# EAGLE library part INEX-PCD8544 (library synfinatic)
INEX PCD8544 LCD Basically a Nokia 5110 LCD with 8 pins. Available at Robotshop.com Note that this PCB has two sets of contacts, top has pins, the bottom has through-hole pads. If you want to use the pads on the bottom, use the alternate package
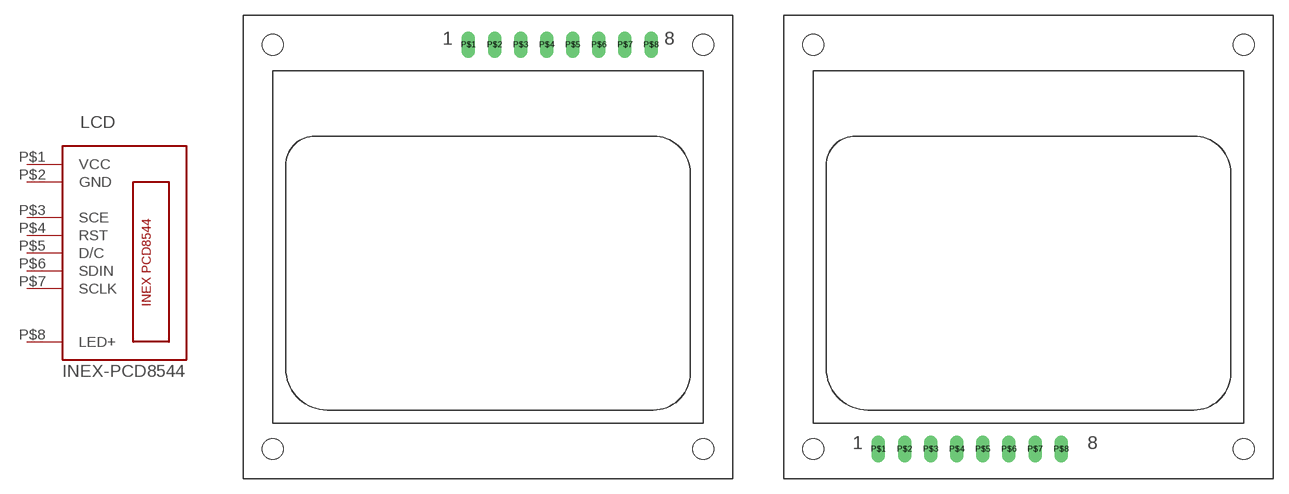
[diagram p0: symbol with the pads of INEX-PCD8544-TOP; footprints INEX-PCD8544-TOP, INEX-PCD8544-BOTTOM]

Designator prefix LCD

## INEX-PCD8544TPINS  [INEX-PCD8544-TOP]
P$1  VCC  pwr
P$2  GND  pwr
P$3  SCE  in
P$4  RST  in
P$5  D/C  in
P$6  SDIN  in
P$7  SCLK  in
P$8  LED+  pwr

## INEX-PCD8544BPINS  [INEX-PCD8544-BOTTOM]
Pads as for INEX-PCD8544-TOP

## INEX-PCD8544PINSONLY  [NOKIA-5100-PINS]
Pads as for INEX-PCD8544-TOP

## INEX-PCD8544TOP-CONNECTED  [INEX-PCD8544-TOP-BOTTOM]
P$9  VCC  pwr
P$10  GND  pwr
P$11  SCE  in
P$12  RST  in
P$13  D/C  in
P$14  SDIN  in
P$15  SCLK  in
P$16  LED+  pwr

## INEX-PCD8544BOTTOM-CONNECTED  [INEX-PCD8544-TOP-BOTTOM]
Pads as for INEX-PCD8544-TOP

## INEX-PCD8544EBAY-BOTTOM-CONN  [NOKIA-5110-EBAY]
P$1  RST  in
P$2  SCE  in
P$3  D/C  in
P$4  SDIN  in
P$5  SCLK  in
P$6  VCC  pwr
P$7  LED+  pwr
P$8  GND  pwr

## INEX-PCD8544EBAY-TOP-CONN  [NOKIA-5110-EBAY]
P$9  RST  in
P$10  SCE  in
P$11  D/C  in
P$12  SDIN  in
P$13  SCLK  in
P$14  VCC  pwr
P$15  LED+  pwr
P$16  GND  pwr

## INEX-PCD8544NOKIA-5110-EBAY-NOHOLES-BOTTOM  [NOKIA-5110-EBAY-NOHOLES]
Pads as for NOKIA-5110-EBAY

## INEX-PCD8544NOKIA-5110-EBAY-NOHOLES-TOP  [NOKIA-5110-EBAY-NOHOLES]
Pads as for NOKIA-5110-EBAY

## Footprint INEX-PCD8544-TOP (pad centres in mm)
drill 0.8 long: P$1 -3.81,41.91; P$2 -1.27,41.91; P$3 1.27,41.91; P$4 3.81,41.91; P$5 6.35,41.91; P$6 8.89,41.91; P$7 11.43,41.91; P$8 13.97,41.91
hole 2 at -22.86,41.91
hole 2 at -22.86,2.54
hole 2 at 19.05,2.54
hole 2 at 19.05,41.91

## Footprint INEX-PCD8544-BOTTOM (pad centres in mm)
drill 0.8 long: P$1 -16.51,-16.51; P$2 -13.97,-16.51; P$3 -11.43,-16.51; P$4 -8.89,-16.51; P$5 -6.35,-16.51; P$6 -3.81,-16.51; P$7 -1.27,-16.51; P$8 1.27,-16.51
hole 2 at -22.86,22.86
hole 2 at -22.86,-16.51
hole 2 at 19.05,-16.51
hole 2 at 19.05,22.86

## Footprint NOKIA-5100-PINS (pad centres in mm)
drill 0.8 long: P$1 -8.89,0; P$2 -6.35,0; P$3 -3.81,0; P$4 -1.27,0; P$5 1.27,0; P$6 3.81,0; P$7 6.35,0; P$8 8.89,0

## Footprint INEX-PCD8544-TOP-BOTTOM (pad centres in mm)
drill 0.8 long: P$1 -15.24,-16.51; P$2 -12.7,-16.51; P$3 -10.16,-16.51; P$4 -7.62,-16.51; P$5 -5.08,-16.51; P$6 -2.54,-16.51; P$7 0,-16.51; P$8 2.54,-16.51; P$9 -2.54,22.86; P$10 0,22.86; P$11 2.54,22.86; P$12 5.08,22.86; P$13 7.62,22.86; P$14 10.16,22.86; P$15 12.7,22.86; P$16 15.24,22.86
hole 2 at -21.59,22.86
hole 2 at -21.59,-16.51
hole 2 at 20.32,-16.51
hole 2 at 20.32,22.86

## Footprint NOKIA-5110-EBAY (pad centres in mm)
Nokia 5110 LCD as purchased from Ebay These LCD's often have red PCB's and most notably have their top & bottom pins directly across from each other unlike the INEX-PCD8544 marked boards which have their pins offset.
drill 1: P$1 -8.89,-15.875; P$2 -6.35,-15.875; P$3 -3.81,-15.875; P$4 -1.27,-15.875; P$5 1.27,-15.875; P$6 3.81,-15.875; P$7 6.35,-15.875; P$8 8.89,-15.875; P$9 -8.89,23.495; P$10 -6.35,23.495; P$11 -3.81,23.495; P$12 -1.27,23.495; P$13 1.27,23.495; P$14 3.81,23.495; P$15 6.35,23.495; P$16 8.89,23.495
hole 2.286 at -20.32,24.13
hole 2.286 at -20.32,-16.51
hole 2.286 at 20.32,-16.51
hole 2.286 at 20.32,24.13

## Footprint NOKIA-5110-EBAY-NOHOLES (pad centres in mm)
drill 1: P$1 -8.89,-15.875; P$2 -6.35,-15.875; P$3 -3.81,-15.875; P$4 -1.27,-15.875; P$5 1.27,-15.875; P$6 3.81,-15.875; P$7 6.35,-15.875; P$8 8.89,-15.875; P$9 -8.89,23.495; P$10 -6.35,23.495; P$11 -3.81,23.495; P$12 -1.27,23.495; P$13 1.27,23.495; P$14 3.81,23.495; P$15 6.35,23.495; P$16 8.89,23.495